# EAGLE library part BLUENRG_WLCSP (library Bluetooth)
Bluetooth® low energy wireless network processor
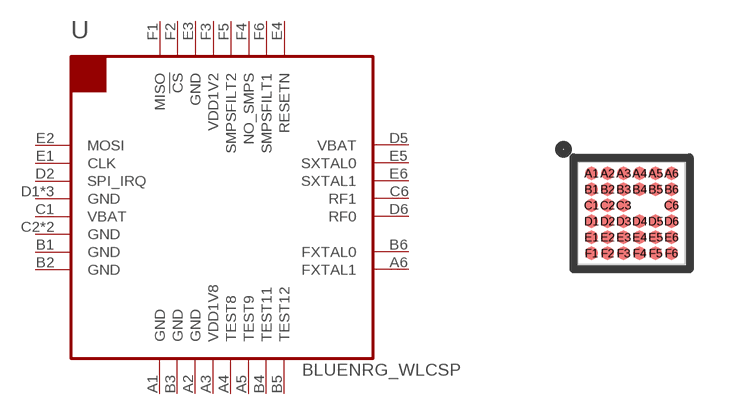
[diagram p1: symbol with the pads of WLCSP34; footprint WLCSP34]

Designator prefix U

## BLUENRG_WLCSP (PARTNO: 01-100513-00)  [WLCSP34]
A1  GND  pwr
A2  GND  pwr
A3  VDD1V8  out
A4  TEST8
A5  TEST9
A6  FXTAL1  in
B1  GND  pwr
B2  GND  pwr
B3  GND  pwr
B4  TEST11
B5  TEST12
B6  FXTAL0  in
C1  VBAT  pwr
C2  GND  pwr
C3  GND  pwr
C6  RF1
D1  GND  pwr
D2  SPI_IRQ  out
D3  GND  pwr
D4  GND  pwr
D5  VBAT  pwr
D6  RF0
E1  CLK  in
E2  MOSI  in
E3  GND  pwr
E4  RESETN  in
E5  SXTAL0  in
E6  SXTAL1  in
F1  MISO  out
F2  !CS  in
F3  VDD1V2  out
F4  NO_SMPS  in
F5  SMPSFILT2
F6  SMPSFILT1  out

## Footprint WLCSP34 (pad centres in mm)
2.66 x 2.56 x 0.5 pitch 0.4mm
smd 0.32 x 0.32: A1 -1,1; A2 -0.6,1; A3 -0.2,1; A4 0.2,1; A5 0.6,1; A6 1,1; B1 -1,0.6; B2 -0.6,0.6; B3 -0.2,0.6; B4 0.2,0.6; B5 0.6,0.6; B6 1,0.6; C1 -1,0.2; C2 -0.6,0.2; C3 -0.2,0.2; C6 1,0.2; D1 -1,-0.2; D2 -0.6,-0.2; D3 -0.2,-0.2; D4 0.2,-0.2; D5 0.6,-0.2; D6 1,-0.2; E1 -1,-0.6; E2 -0.6,-0.6; E3 -0.2,-0.6; E4 0.2,-0.6; E5 0.6,-0.6; E6 1,-0.6; F1 -1,-1; F2 -0.6,-1; F3 -0.2,-1; F4 0.2,-1; F5 0.6,-1; F6 1,-1